# Altium footprint library MergenElektronik_Logics_LevelShifters.PcbLib: 1 footprints
Each footprint in its own frame and in the unit in brackets; x right, y up, seen from the top. Pads: shape width x height; smd on the part's side, far side on the other; paste and mask are expansions set on the pad; w line width, h text height; cw(c..) or ccw(c..) is an arc to the next point about the centre after c.
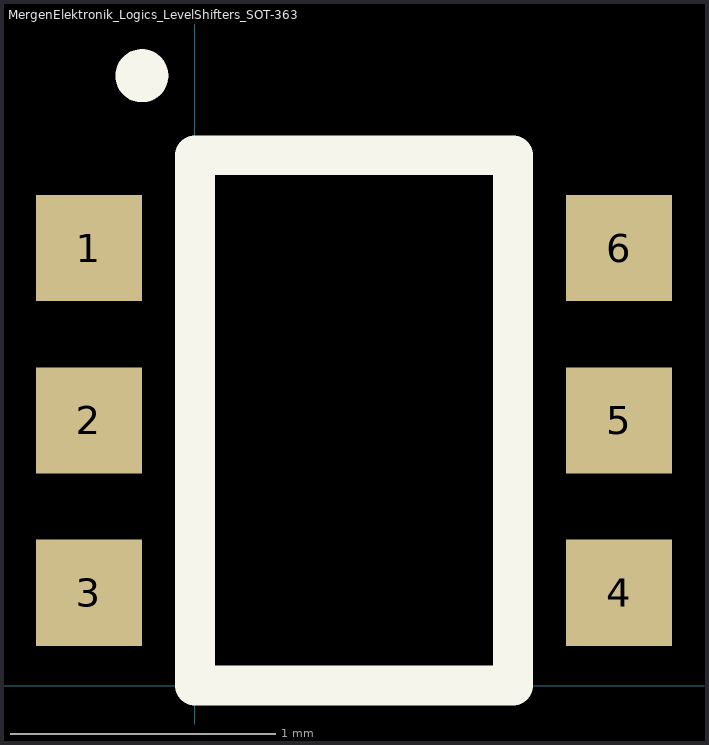
[diagram p0: the footprint, top view; thin cyan lines are the x and y axes]

## MergenElektronik_Logics_LevelShifters_SOT-363 [mm] "SOT-363"
pads (6):
  rect 0.4x0.4 smd: 1(-0.4,1.65) 2(-0.4,1) 3(-0.4,0.35) 4(1.6,0.35) 5(1.6,1) 6(1.6,1.65)
Top Overlay:
  circle w0.1: c-0.2,2.3 r0.05
  lines w0.15: 0,0 1.2,0 1.2,2 0,2 0,0
3D body: height 0.95, standoff 0, extent -0.45,-0.05 1.65,2.05